# EAGLE library part SN74HC164 (library BaseApp)
Digikey No (TSOP) :- __296-14020-1-ND__ Digikey No (SOIC) :- __MC74HC164ADGOS-ND__
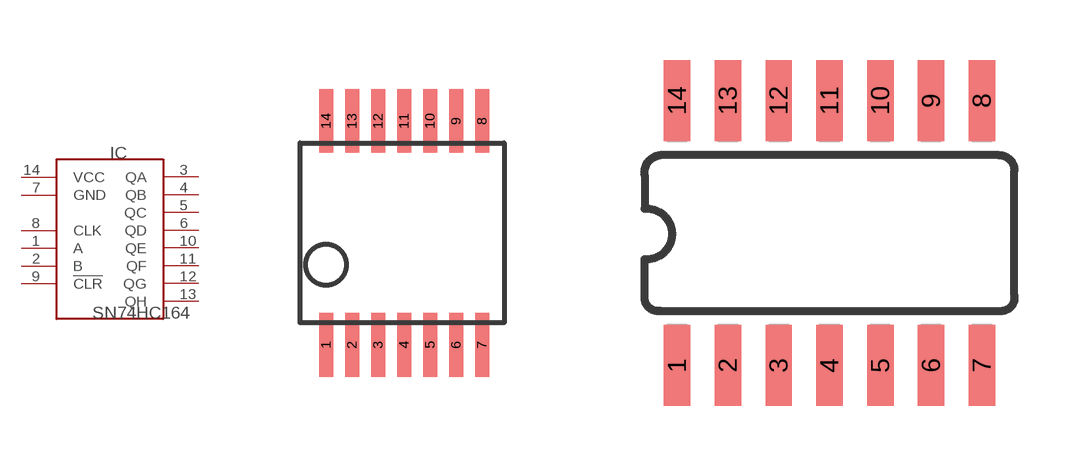
[diagram p31: symbol with the pads of 14TSSOP; footprints 14TSSOP, SOIC-14]

Designator prefix IC

## SN74HC164  [14TSSOP]
1  A
2  B
3  QA
4  QB
5  QC
6  QD
7  GND
8  CLK
9  !CLR
10  QE
11  QF
12  QG
13  QH
14  VCC

## SN74HC164'  [SOIC-14]
Pads as for 14TSSOP

## Footprint 14TSSOP (pad centres in mm)
smd 0.35 x 1.6: 1 -1.7,-2.9; 2 -1.05,-2.9; 3 -0.4,-2.9; 4 0.25,-2.9; 5 0.9,-2.9; 6 1.55,-2.9; 7 2.2,-2.9; 8 2.2,2.7; 9 1.55,2.7; 10 0.9,2.7; 11 0.25,2.7; 12 -0.4,2.7; 13 -1.05,2.7; 14 -1.7,2.7

## Footprint SOIC-14 (pad centres in mm)
smd 0.66 x 2.032: 1 -3.175,-3.315; 2 -1.905,-3.315; 3 -0.635,-3.315; 4 0.635,-3.315; 5 1.905,-3.315; 6 3.175,-3.315; 7 4.445,-3.315; 8 4.445,3.315; 9 3.175,3.315; 10 1.905,3.315; 11 0.635,3.315; 12 -0.635,3.315; 13 -1.905,3.315; 14 -3.175,3.315